# Altium schematic symbol library HDR_1X4.SchLib: 1 symbol
Pins are listed as number, name and electrical type; pins without a type are passive.

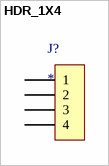
[diagram p0: symbol HDR_1X4]

## HDR_1X4
designator J?
pins: 1, 2, 3, 4